# Altium schematic symbol library IC-STC.SchLib: 1 symbol
Pins are listed as number, name and electrical type; pins without a type are passive.

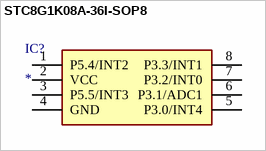
[diagram p0: symbol STC8G1K08A-36I-SOP8]

## STC8G1K08A-36I-SOP8
designator IC?
8位单片机; Manufacturer_Name: STC(宏晶); Manufacturer_Part_Number: STC8G1K08A-36I-SOP8; LCSC: C915663; Manufacturer_Name_1: *; Manufacturer_Part_Number_1: *
footprint SOP-8 (SOP, 8-Leads, Body 4.90x3.90mm, Pitch 1.27mm, IPC Medium Density)
pins: 1 P5.4/INT2, 2 VCC, 3 P5.5/INT3, 4 GND, 5 P3.0/INT4, 6 P3.1/ADC1, 7 P3.2/INT0, 8 P3.3/INT1